# Altium footprint library PCBLib.PcbLib: 168 footprints (part 6 of 11)
Each footprint in its own frame and in the unit in brackets; x right, y up, seen from the top. Pads: shape width x height; smd on the part's side, far side on the other; paste and mask are expansions set on the pad; w line width, h text height; cw(c..) or ccw(c..) is an arc to the next point about the centre after c.
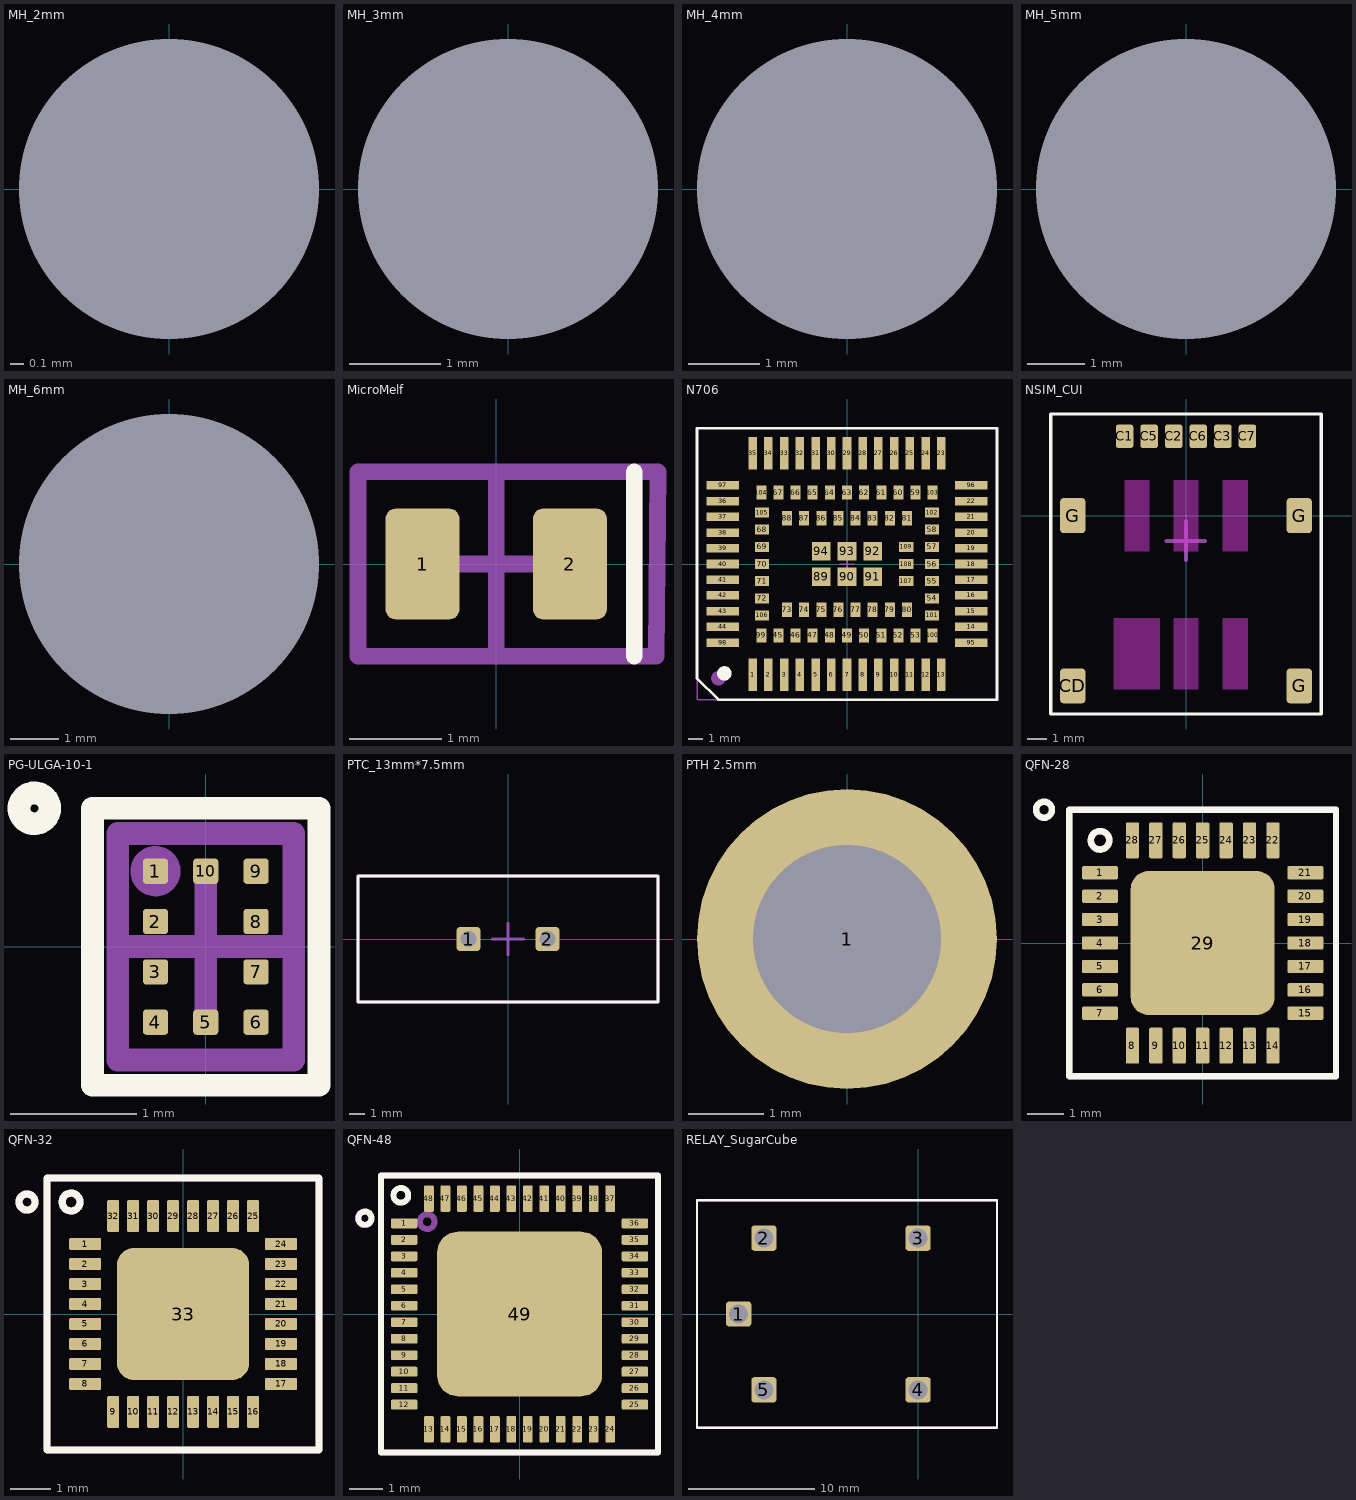
[diagram p5: the footprints below, top view; thin cyan lines are the x and y axes]

## MH_2mm [mm]
pads (1):
  round 0 hole 2.2 unplated: 1(0,0)

## MH_3mm [mm]
pads (1):
  round 0 hole 3.3 unplated: 1(0,0)

## MH_4mm [mm]
pads (1):
  round 0 hole 4.2 unplated: 1(0,0)

## MH_5mm [mm]
pads (1):
  round 0 hole 5.2 unplated: 1(0,0)

## MH_6mm [mm]
pads (1):
  round 0 hole 6.2 unplated: 1(0,0)

## MicroMelf [mm]
pads (2):
  rrect25% 0.8x1.2 smd mask+0.05: 1(-0.8,0) 2(0.8,0)
Top Overlay:
  lines w0.18: 1.5,-1 1.5,1
Top Assembly:
  lines w0.18: 1.5,-1 1.5,1 ; -1.5,-1 1.737,-1 1.756,1 -1.5,1 -1.5,-1
Top Component Center:
  lines w0.18: -1,0 1,0 ; 0,-1 0,1
Top Courtyard:
  lines w0.05: -1.5,-1 1.5,-1 1.5,1 -1.5,1 -1.5,-1
Top Designator:
  text ".Designator" at -3.809,-0.254 h0.76
3D body "6.560-5007.01.stp": height 1.16, standoff -0.04, extent -1,-0.6 1,0.6

## N706 [mm]
pads (109):
  rect 0.6x2.3 smd mask+0.05: 1(-6.6,-7.75) 2(-5.5,-7.75) 3(-4.4,-7.75) 4(-3.3,-7.75) 5(-2.2,-7.75) 6(-1.1,-7.75) 7(0,-7.75) 8(1.1,-7.75) 9(2.2,-7.75) 10(3.3,-7.75) 11(4.4,-7.75) 12(5.5,-7.75) 13(6.6,-7.75) 23(6.6,7.75) 24(5.5,7.75) 25(4.4,7.75) 26(3.3,7.75) 27(2.2,7.75) 28(1.1,7.75) 29(0,7.75) 30(-1.1,7.75) 31(-2.2,7.75) 32(-3.3,7.75) 33(-4.4,7.75) 34(-5.5,7.75) 35(-6.6,7.75)
  rect 2.3x0.6 smd mask+0.05: 14(8.7,-4.4) 15(8.7,-3.3) 16(8.7,-2.2) 17(8.7,-1.1) 18(8.7,0) 19(8.7,1.1) 20(8.7,2.2) 21(8.7,3.3) 22(8.7,4.4) 36(-8.7,4.4) 37(-8.7,3.3) 38(-8.7,2.2) 39(-8.7,1.1) 40(-8.7,0) 41(-8.7,-1.1) 42(-8.7,-2.2) 43(-8.7,-3.3) 44(-8.7,-4.4) 95(8.7,-5.5) 96(8.7,5.5) 97(-8.7,5.5) 98(-8.7,-5.5)
  rect 0.7x1 smd mask+0.05: 45(-4.8,-5) 46(-3.6,-5) 47(-2.4,-5) 48(-1.2,-5) 49(0,-5) 50(1.2,-5) 51(2.4,-5) 52(3.6,-5) 53(4.8,-5) 59(4.8,5) 60(3.6,5) 61(2.4,5) 62(1.2,5) 63(0,5) 64(-1.2,5) 65(-2.4,5) 66(-3.6,5) 67(-4.8,5) 73(-4.2,-3.2) 74(-3,-3.2) 75(-1.8,-3.2) 76(-0.6,-3.2) 77(0.6,-3.2) 78(1.8,-3.2) 79(3,-3.2) 80(4.2,-3.2) 81(4.2,3.2) 82(3,3.2) 83(1.8,3.2) 84(0.6,3.2) 85(-0.6,3.2) 86(-1.8,3.2) 87(-3,3.2) 88(-4.2,3.2) 99(-6,-5) 100(6,-5) 103(6,5) 104(-6,5)
  rect 1x0.7 smd mask+0.05: 54(5.95,-2.4) 55(5.95,-1.2) 56(5.95,0) 57(5.95,1.2) 58(5.95,2.4) 68(-5.95,2.4) 69(-5.95,1.2) 70(-5.95,0) 71(-5.95,-1.2) 72(-5.95,-2.4) 101(5.95,-3.6) 102(5.95,3.6) 105(-5.95,3.6) 106(-5.95,-3.6) 107(4.15,-1.2) 108(4.15,0) 109(4.15,1.2)
  rect 1.3x1.3 smd mask+0.05: 89(-1.8,-0.9) 90(0,-0.9) 91(1.8,-0.9) 92(1.8,0.9) 93(0,0.9) 94(-1.8,0.9)
Top Overlay:
  circle w0.5: c-8.587,-7.657 r0.254
  lines w0.18: -10.5,-8 -9,-9.5 -8.5,-9.5 10.5,-9.5 10.5,9.5 -10.5,9.5 -10.5,-8
Top Assembly:
  circle w0.5: c-9,-8 r0.254
  lines w0.1: -10.5,-9.5 -10.5,9.5 10.5,9.5 10.5,-9.5 -10.5,-9.5
Top Component Center:
  lines w0.1: -0.508,0 0.492,0 ; 0,-0.492 0,0.508
Top Courtyard:
  lines w0.05: -10.5,-9.5 10.5,-9.5 10.5,9.5 -10.5,9.5 -10.5,-9.5
Top Designator:
  text ".Designator" at -3.809,-0.254 h0.76
3D body "N706-CB_asm.stp": height 2.3, standoff 0, extent -8.85,-7.874 8.85,7.926

## NFC Antenna [mm]

## NSIM_CUI [mm]
pads (10):
  rrect25% 0.9x1.2 smd mask+0.05: C1(-3.175,4.1) C2(-0.635,4.1) C3(1.905,4.1) C5(-1.905,4.1) C6(0.635,4.1) C7(3.175,4.1)
  rrect25% 1.3x1.8 smd mask+0.05: CD(-5.85,-8.8) G(-5.85,0) G(5.85,-8.8) G(5.85,0)
Top Layer keep-out:
  rectangle: -3.741,-8.986 -1.341,-5.286
  rectangle: -0.646,-8.986 0.654,-5.286
  rectangle: 1.894,-8.986 3.194,-5.286
  rectangle: -3.186,-1.85 -1.886,1.85
  rectangle: -0.646,-1.85 0.654,1.85
  rectangle: 1.894,-1.85 3.194,1.85
Top Overlay:
  lines w0.18: -7,-10.25 -7,5.25 7,5.25 7,-10.25 -7,-10.25
Top Assembly:
  lines w0.1: -7,-10.25 -7,5.25 7,5.25 7,-10.25 -7,-10.25
Top Component Center:
  lines w0.2: -1.002,-1.31 0.998,-1.31 ; 0,-2.308 0,-0.308
Top Courtyard:
  lines w0.05: -7,-10.25 -7,5.25 7,5.25 7,-10.25 -7,-10.25
Top Designator:
  text ".Designator" at -3.809,-1.564 h0.76
3D body "G85D1160022HHR.step": height 1.43, standoff 0, extent -6.2,-9.63 6.2,4.47

## PG-ULGA-10-1 [mm]
pads (10):
  rrect25% 0.2x0.2 smd mask+0.05: 1(-0.4,0.6) 2(-0.4,0.2) 3(-0.4,-0.2) 4(-0.4,-0.6) 5(0,-0.6) 6(0.4,-0.6) 7(0.4,-0.2) 8(0.4,0.2) 9(0.4,0.6) 10(0,0.6)
Top Overlay:
  circle w0.18: c-1.362,1.1 r0.122
  lines w0.18: -0.9,-1.1 -0.9,1.1 0.9,1.1 0.9,-1.1 -0.9,-1.1
Top Assembly:
  circle w0.18: c-0.4,0.6 r0.109
  lines w0.18: -0.7,-0.9 0.7,-0.9 0.7,0.9 -0.7,0.9 -0.7,-0.9
Top Component Center:
  lines w0.18: -0.6,0.001 0.6,0.001 ; 0,0.2 0,-0.6 0,0.6
Top Courtyard:
  lines w0.05: -0.7,-0.9 0.7,-0.9 0.7,0.9 -0.7,0.9 -0.7,-0.9
Top Designator:
  text ".Designator" at -3.809,-0.253 h0.76
3D body "BGSX22G6U10E6327XTSA1.stp": height 0.75, standoff 0, extent -0.55,-0.749 0.55,0.751

## PTC_13mm*7.5mm [mm]
pads (2):
  rrect25% 1.5x1.5 hole 1 mask+0.05: 1(-2.5,0) 2(2.5,0)
Top Overlay:
  lines w0.18: -9.5,-4 -9.5,4 9.5,4 9.5,-4 -9.5,-4
Top Assembly:
  lines w0.18: -9.5,-4 -9.5,4 9.5,4 9.5,-4 -9.5,-4
Top Component Center:
  lines w0.18: -1,0 1,0 ; 0,-1 0,1
Top Courtyard:
  lines w0.18: -9.5,-4 -9.5,4 9.5,4 9.5,-4 -9.5,-4
Top Designator:
  text ".Designator" at -3.809,-0.254 h0.76
3D body "b59850c0080a070.step": height 17.75, standoff -24.25, extent -6.772,-2.581 6.728,2.418

## PTH 2.5mm [mm]
pads (1):
  round 4 hole 2.5 mask+0.05: 1(0,0)

## QFN-28 [mm]
pads (29):
  rrect25% 1x0.37 smd mask+0.05: 1(-2.85,1.95) 2(-2.85,1.3) 3(-2.85,0.65) 4(-2.85,0) 5(-2.85,-0.65) 6(-2.85,-1.3) 7(-2.85,-1.95) 15(2.85,-1.95) 16(2.85,-1.3) 17(2.85,-0.65) 18(2.85,0) 19(2.85,0.65) 20(2.85,1.3) 21(2.85,1.95)
  rrect25% 0.37x1 smd mask+0.05: 8(-1.95,-2.85) 9(-1.3,-2.85) 10(-0.65,-2.85) 11(0,-2.85) 12(0.65,-2.85) 13(1.3,-2.85) 14(1.95,-2.85) 22(1.95,2.85) 23(1.3,2.85) 24(0.65,2.85) 25(0,2.85) 26(-0.65,2.85) 27(-1.3,2.85) 28(-1.95,2.85)
  rrect25% 4x4 smd mask+0.05: 29(0,0)
Top Overlay:
  circle w0.18: c-2.85,2.85 r0.256
  circle w0.18: c-4.404,3.7 r0.222
  lines w0.18: -3.7,-3.7 -3.7,3.7 3.7,3.7 3.7,-3.7 -3.7,-3.7
Top Assembly:
  circle w0.18: c-2.85,2.85 r0.256
  lines w0.18: -3.7,-3.7 -3.7,3.7 3.7,3.7 3.7,-3.7 -3.7,-3.7
Top Component Center:
  lines w0.1: -1,0 1,0 ; 0,-1 0,1
Top Courtyard:
  lines w0.05: -3.7,-3.7 3.7,-3.7 3.7,3.7 -3.7,3.7 -3.7,-3.7
Top Designator:
  text ".Designator" at -3.809,-0.254 h0.76
3D body "PIC18F26K20-E_ML.stp": height 1, standoff 0, extent -3.05,-3.05 3.05,3.05

## QFN-32 [mm]
pads (33):
  rrect25% 0.8x0.3 smd mask+0.05: 1(-2.45,1.75) 2(-2.45,1.25) 3(-2.45,0.75) 4(-2.45,0.25) 5(-2.45,-0.25) 6(-2.45,-0.75) 7(-2.45,-1.25) 8(-2.45,-1.75) 17(2.45,-1.75) 18(2.45,-1.25) 19(2.45,-0.75) 20(2.45,-0.25) 21(2.45,0.25) 22(2.45,0.75) 23(2.45,1.25) 24(2.45,1.75)
  rrect25% 0.3x0.8 smd mask+0.05: 9(-1.75,-2.45) 10(-1.25,-2.45) 11(-0.75,-2.45) 12(-0.25,-2.45) 13(0.25,-2.45) 14(0.75,-2.45) 15(1.25,-2.45) 16(1.75,-2.45) 25(1.75,2.45) 26(1.25,2.45) 27(0.75,2.45) 28(0.25,2.45) 29(-0.25,2.45) 30(-0.75,2.45) 31(-1.25,2.45) 32(-1.75,2.45)
  rrect25% 3.3x3.3 smd mask+0.05: 33(0,0)
Top Overlay:
  circle w0.18: c-3.901,2.8 r0.201
  circle w0.18: c-2.8,2.8 r0.224
  lines w0.18: -3.4,-3.4 -3.4,3.4 3.4,3.4 3.4,-3.4 -3.4,-3.4
Top Assembly:
  circle w0.18: c-3.9,2.8 r0.2
  circle w0.18: c-2.8,2.8 r0.224
  lines w0.18: -3.4,-3.4 3.4,-3.4 3.4,3.4 -3.4,3.4 -3.4,-3.4
Top Component Center:
  lines w0.18: -1,0 1,0 ; 0,-1 0,1
Top Courtyard:
  lines w0.05: -3.4,-3.4 3.4,-3.4 3.4,3.4 -3.4,3.4 -3.4,-3.4
Top Designator:
  text ".Designator" at -3.809,-0.254 h0.76
3D body "TQFN32_5X5_SEM.step": height 0.79, standoff 0, extent -2.553,-2.553 2.553,2.553

## QFN-48 [mm]
pads (49):
  rrect25% 0.8x0.3 smd mask+0.05: 1(-3.5,2.75) 2(-3.5,2.25) 3(-3.5,1.75) 4(-3.5,1.25) 5(-3.5,0.75) 6(-3.5,0.25) 7(-3.5,-0.25) 8(-3.5,-0.75) 9(-3.5,-1.25) 10(-3.5,-1.75) 11(-3.5,-2.25) 12(-3.5,-2.75) 25(3.5,-2.75) 26(3.5,-2.25) 27(3.5,-1.75) 28(3.5,-1.25) 29(3.5,-0.75) 30(3.5,-0.25) 31(3.5,0.25) 32(3.5,0.75) 33(3.5,1.25) 34(3.5,1.75) 35(3.5,2.25) 36(3.5,2.75)
  rrect25% 0.3x0.8 smd mask+0.05: 13(-2.75,-3.5) 14(-2.25,-3.5) 15(-1.75,-3.5) 16(-1.25,-3.5) 17(-0.75,-3.5) 18(-0.25,-3.5) 19(0.25,-3.5) 20(0.75,-3.5) 21(1.25,-3.5) 22(1.75,-3.5) 23(2.25,-3.5) 24(2.75,-3.5) 37(2.75,3.5) 38(2.25,3.5) 39(1.75,3.5) 40(1.25,3.5) 41(0.75,3.5) 42(0.25,3.5) 43(-0.25,3.5) 44(-0.75,3.5) 45(-1.25,3.5) 46(-1.75,3.5) 47(-2.25,3.5) 48(-2.75,3.5)
  rrect25% 5x5 smd paste-2539.97 mask+0.05: 49(0,0)
Top Overlay:
  circle w0.18: c-3.6,3.6 r0.224
  circle w0.18: c-4.69,2.907 r0.201
  lines w0.18: -4.2,-4.2 4.2,-4.2 4.2,4.2 -4.2,4.2 -4.2,-4.2
Top Paste:
  region: -2,-1 -2,1 -2,1.066 -1.983,1.196 -1.949,1.322 -1.899,1.443 -1.833,1.557 -1.753,1.661 -1.661,1.753 -1.557,1.833 -1.443,1.899 -1.322,1.949 -1.196,1.983 -1.066,2 -1,2 1,2 1.066,2 1.196,1.983 1.322,1.949 1.443,1.899 1.557,1.833 1.661,1.753 1.753,1.661 1.833,1.557 1.899,1.443 1.949,1.322 1.983,1.196 2,1.066 2,1 2,-1 2,-1.066 1.983,-1.196 1.949,-1.322 1.899,-1.443 1.833,-1.557 1.753,-1.661 1.661,-1.753 1.557,-1.833 1.443,-1.899 1.322,-1.949 1.196,-1.983 1.066,-2 1,-2 -1,-2 -1.066,-2 -1.196,-1.983 -1.322,-1.949 -1.443,-1.899 -1.557,-1.833 -1.661,-1.753 -1.753,-1.661 -1.833,-1.557 -1.899,-1.443 -1.949,-1.322 -1.983,-1.196 -2,-1.066
Top Assembly:
  circle w0.18: c-2.8,2.8 r0.224
  circle w0.18: c-4.7,2.9 r0.2
  lines w0.18: -4.2,-4.2 -4.2,4.2 4.2,4.2 4.2,-4.2 -4.2,-4.2
Top Component Center:
  lines w0.18: -1,0 1,0 ; 0,-1 0,1
Top Courtyard:
  lines w0.05: -4.2,-4.2 -4.2,4.2 4.2,4.2 4.2,-4.2 -4.2,-4.2
Top Designator:
  text ".Designator" at -3.809,-0.254 h0.76
3D body "PWQN0048KB-A_REN.step": height 0.81, standoff 0, extent -3.531,-3.531 3.531,3.531

## RELAY_SugarCube [mm]
pads (5):
  rrect25% 2x2 hole 1.5 mask+0.05: 1(-14.2,0) 2(-12.2,6) 3(0,6) 4(0,-6) 5(-12.2,-6)
Top Overlay:
  lines w0.18: -17.5,-9 -17.5,9 6.25,9 6.25,-9 -17.5,-9
Top Assembly:
  lines w0.18: -17.5,-9 -17.5,9 6.25,9 6.25,-9 -17.5,-9
Top Courtyard:
  lines w0.18: -17.5,-9 -17.5,9 6.25,9 6.25,-9 -17.5,-9
Top Designator:
  text ".Designator" at -9.564,-0.254 h0.76
3D body "G5LE-1-VD DC12.STEP": height 19, standoff -3.5, extent -16.825,-8.25 5.675,8.25